# EAGLE library part RFFM6404 (library RFFM6406)
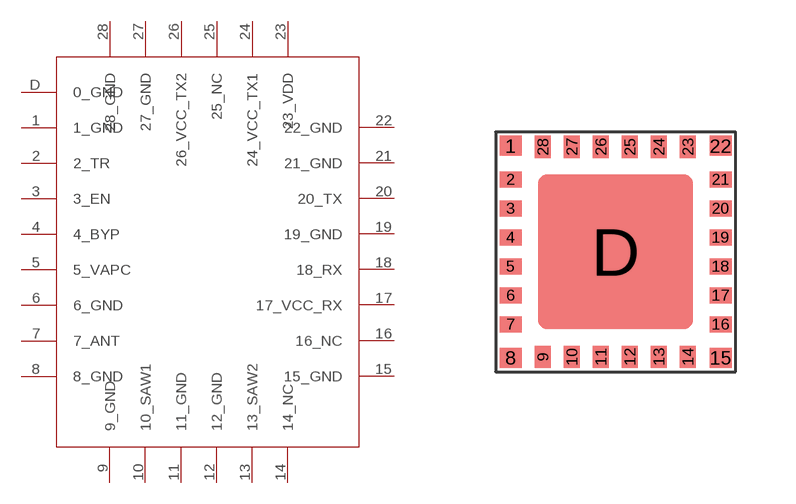
[diagram p0: symbol with the pads of RFFM6406; footprint RFFM6406]

Designator prefix -

## RFFM6404  [RFFM6406]
1  1_GND
2  2_TR
3  3_EN
4  4_BYP
5  5_VAPC
6  6_GND
7  7_ANT
8  8_GND
9  9_GND
10  10_SAW1
11  11_GND
12  12_GND
13  13_SAW2
14  14_NC
15  15_GND
16  16_NC
17  17_VCC_RX
18  18_RX
19  19_GND
20  20_TX
21  21_GND
22  22_GND
23  23_VDD
24  24_VCC_TX1
25  25_NC
26  26_VCC_TX2
27  27_GND
28  28_GND
D  0_GND

## Footprint RFFM6406 (pad centres in mm)
smd 0.55 x 0.5: 1 0.375,5.65; 8 0.375,0.35; 15 5.625,0.35; 22 5.625,5.65
smd 0.55 x 0.4: 2 0.375,4.812; 3 0.375,4.087; 4 0.375,3.362; 5 0.375,2.637; 6 0.375,1.912; 7 0.375,1.187; 16 5.625,1.187; 17 5.625,1.912; 18 5.625,2.637; 19 5.625,3.362; 20 5.625,4.087; 21 5.625,4.812
smd 0.4 x 0.55: 9 1.187,0.375; 10 1.912,0.375; 11 2.637,0.375; 12 3.362,0.375; 13 4.087,0.375; 14 4.812,0.375; 23 4.812,5.625; 24 4.087,5.625; 25 3.362,5.625; 26 2.637,5.625; 27 1.912,5.625; 28 1.187,5.625
smd 3.875 x 3.875: D 3,3